# Altium schematic symbol library Header_Amphenol_FCI_71922-116LF_16POS.SchLib: 1 symbol
Pins are listed as number, name and electrical type; pins without a type are passive.

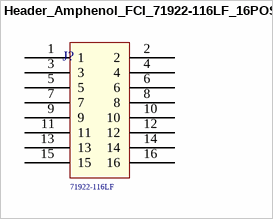
[diagram p0: symbol Header_Amphenol_FCI_71922-116LF_16POS]

## Header_Amphenol_FCI_71922-116LF_16POS
designator J?  Series: 71922-116LF  (hidden comment: Header_Amphenol_FCI_71922-116LF_16POS)
Latch Headers & Wire Housings 16P 2x8 R/A IDC HDR; Supplier 1: Mouser; Supplier Part Number 1: 649-71922-116LF
footprint Header_Amphenol_FCI_71922-116LF_16POS
pins: 1, 2, 3, 4, 5, 6, 7, 8, 9, 10, 11, 12, 13, 14, 15, 16